# EAGLE library part MSP432 (library Custom Library)
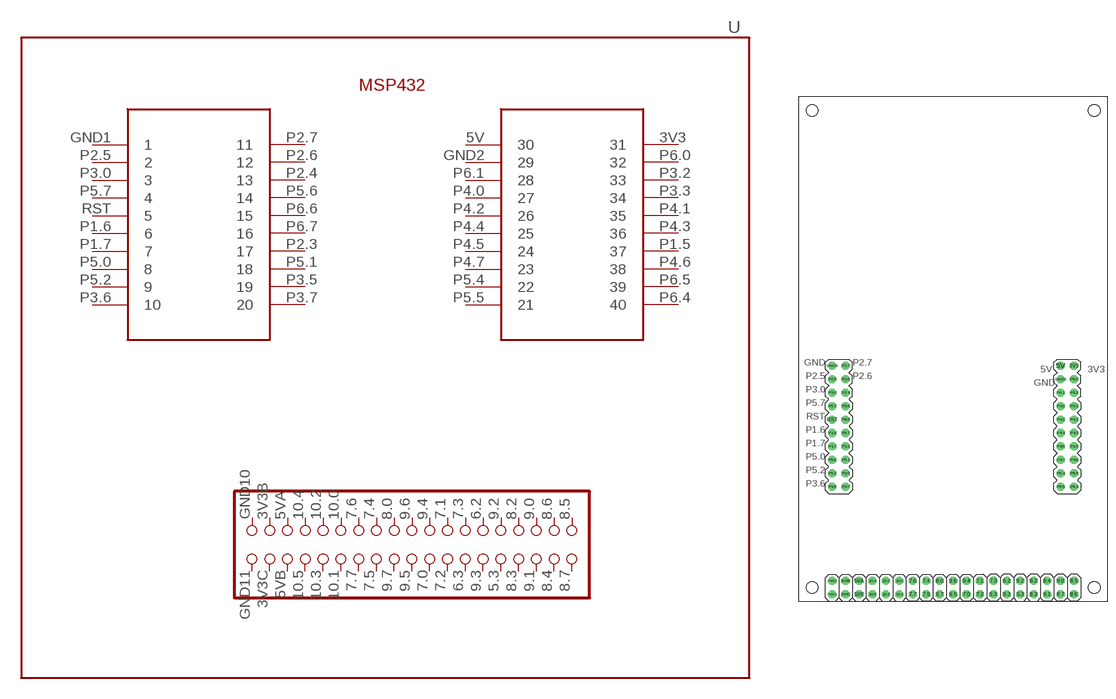
[diagram p1: symbol with the pads of MSP432; footprint MSP432]

Designator prefix -

## MSP432  [MSP432]
3V3  31  pwr
3V3B  44  pas
3V3C  43  pas
5.3  69  pas
5V  30  pwr
5VA  46  pas
5VB  45  pas
6.2  68  pas
6.3  65  pas
7.0  61  pas
7.1  64  pas
7.2  63  pas
7.3  66  pas
7.4  56  pas
7.5  55  pas
7.6  54  pas
7.7  53  pas
8.0  58  pas
8.2  72  pas
8.3  71  pas
8.4  74  pas
8.5  78  pas
8.6  77  pas
8.7  75  pas
9.0  76  pas
9.1  73  pas
9.2  70  pas
9.3  67  pas
9.4  62  pas
9.5  59  pas
9.6  60  pas
9.7  57  pas
10.0  52  pas
10.1  51  pas
10.2  50  pas
10.3  49  pas
10.4  48  pas
10.5  47  pas
GND1  1  pwr
GND2  29  pwr
GND10  42  pas
GND11  41  pas
P1.5  37
P1.6  6
P1.7  7
P2.3  17
P2.4  13
P2.5  2
P2.6  12
P2.7  11
P3.0  3
P3.2  33
P3.3  34
P3.5  19
P3.6  10
P3.7  20
P4.0  27
P4.1  35
P4.2  26
P4.3  36
P4.4  25
P4.5  24
P4.6  38
P4.7  23
P5.0  8
P5.1  18
P5.2  9
P5.4  22
P5.5  21
P5.6  14
P5.7  4
P6.0  32
P6.1  28
P6.4  40
P6.5  39
P6.6  15
P6.7  16
RST  5

## Footprint MSP432 (pad centres in mm)
drill 1.016 octagon: 3V3 52.07,44.45; 3V3B 8.89,3.81; 3V3C 8.89,1.27; 5.3 41.91,1.27; 5V 49.53,44.45; 5VA 11.43,3.81; 5VB 11.43,1.27; 6.2 39.37,3.81; 6.3 36.83,1.27; 7.0 31.75,1.27; 7.1 34.29,3.81; 7.2 34.29,1.27; 7.3 36.83,3.81; 7.4 24.13,3.81; 7.5 24.13,1.27; 7.6 21.59,3.81; 7.7 21.59,1.27; 8.0 26.67,3.81; 8.2 44.45,3.81; 8.3 44.45,1.27; 8.4 46.99,3.81; 8.5 52.07,3.81; 8.6 52.07,1.27; 8.7 49.53,1.27; 9.0 49.53,3.81; 9.1 46.99,1.27; 9.2 41.91,3.81; 9.3 39.37,1.27; 9.4 31.75,3.81; 9.5 29.21,1.27; 9.6 29.21,3.81; 9.7 26.67,1.27; 10.0 19.05,3.81; 10.1 19.05,1.27; 10.2 16.51,3.81; 10.3 16.51,1.27; 10.4 13.97,3.81; 10.5 13.97,1.27; GND1 6.35,44.45; GND2 49.53,41.91; GND10 6.35,3.81; GND11 6.35,1.27; P1.5 52.07,29.21; P1.6 6.35,31.75; P1.7 6.35,29.21; P2.3 8.89,29.21; P2.4 8.89,39.37; P2.5 6.35,41.91; P2.6 8.89,41.91; P2.7 8.89,44.45; P3.0 6.35,39.37; P3.2 52.07,39.37; P3.3 52.07,36.83; P3.5 8.89,24.13; P3.6 6.35,21.59; P3.7 8.89,21.59; P4.0 49.53,36.83; P4.1 52.07,34.29; P4.2 49.53,34.29; P4.3 52.07,31.75; P4.4 49.53,31.75; P4.5 49.53,29.21; P4.6 52.07,26.67; P4.7 49.53,26.67; P5.0 6.35,26.67; P5.1 8.89,26.67; P5.2 6.35,24.13; P5.4 49.53,24.13; P5.5 49.53,21.59; P5.6 8.89,36.83; P5.7 6.35,36.83; P6.0 52.07,41.91; P6.1 49.53,39.37; P6.4 52.07,21.59; P6.5 52.07,24.13; P6.6 8.89,34.29; P6.7 8.89,31.75; RST 6.35,34.29
hole 2.21 at 2.54,92.71
hole 2.21 at 55.88,92.71
hole 2.21 at 2.54,2.54
hole 2.21 at 55.88,2.54